# Altium footprint library pedals-resistors.PCBLIB: 12 footprints
Each footprint in its own frame and in the unit in brackets; x right, y up, seen from the top. Pads: shape width x height; smd on the part's side, far side on the other; paste and mask are expansions set on the pad; w line width, h text height; cw(c..) or ccw(c..) is an arc to the next point about the centre after c.
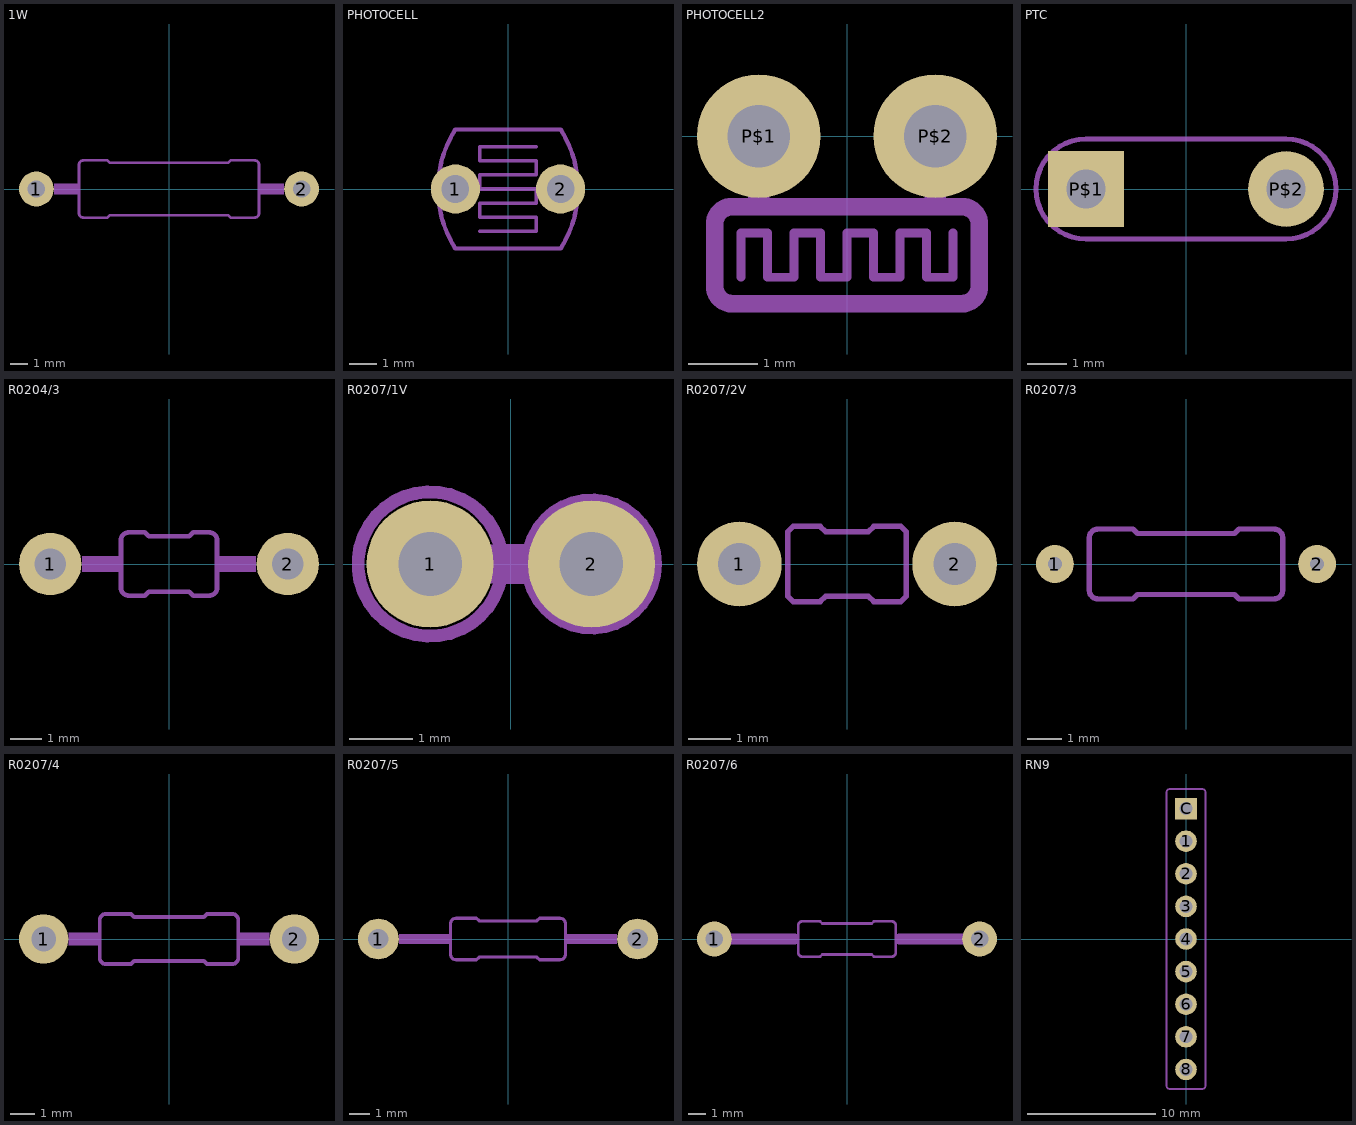
[diagram p0: the footprints below, top view; thin cyan lines are the x and y axes]

## 1W [mm]
pads (2):
  round 2 hole 1: 1(-7.62,0) 2(7.62,0)
Mechanical 2:
  region: 6.604,0.305 5.175,0.305 5.175,-0.305 6.604,-0.305
  rectangle: -6.604,-0.305 -5.175,0.305
  lines w0.152: -5.175,-1.389 ccw(c-4.921,-1.389) -4.921,-1.643 -3.54,-1.643 -3.413,-1.516 3.413,-1.516 3.54,-1.643 4.921,-1.643 ccw(c4.921,-1.389) 5.175,-1.389 5.175,1.389 ccw(c4.921,1.389) 4.921,1.643 3.54,1.643 3.413,1.516 -3.413,1.516 -3.54,1.643 -4.921,1.643 ccw(c-4.921,1.389) -5.175,1.389 -5.175,-1.389

## PHOTOCELL [mil]
pads (2):
  round 70 hole 39.37: 1(-75,0) 2(75,0)
Mechanical 2:
  lines w5: -40,-60 40,-60 40,-40 -40,-40 -40,-20 40,-20 40,0 -40,0 -40,20 40,20 40,40 -40,40 -40,60 40,60
  lines w6: -75,-85 75,-85 ccw(c-57,0) 75,85 -75,85 ccw(c57,0) -75,-85

## PHOTOCELL2 [mil]
pads (2):
  round 70 hole 35.43: P$1(-50,0) P$2(50,0)
Mechanical 2:
  lines w5: -60,-80 -60,-55 -45,-55 -45,-80 -30,-80 -30,-55 -15,-55 -15,-80 0,-80 0,-55 15,-55 15,-80 30,-80 30,-55 45,-55 45,-80 60,-80 60,-55
  lines w10: -75,-85 ccw(c-65,-85) -65,-95 -55,-95 65,-95 ccw(c65,-85) 75,-85 75,-50 ccw(c65,-50) 65,-40 25,-40 10,-40 -10,-40 -25,-40 -55,-40 -65,-40 ccw(c-65,-50) -75,-50 -75,-85
  lines w12: -50,-35 -50,0 ; 50,-35 50,0

## PTC [mil]
pads (2):
  rect 76x76 hole 39.37: P$1(-100,0)
  round 76 hole 39.37: P$2(100,0)
Mechanical 2:
  lines w5: -150,0 ccw(c-100,0) -100,-50 100,-50 ccw(c100,0) 150,0 ccw(c100,0) 100,50 -100,50 ccw(c-100,0) -150,0

## R0204/3 [mm]
pads (2):
  round 2 hole 1: 1(-3.81,0) 2(3.81,0)
Mechanical 2:
  rectangle: -2.794,-0.254 -1.524,0.254
  rectangle: 1.524,-0.254 2.794,0.254
  lines w0.152: -1.54,-0.762 ccw(c-1.286,-0.762) -1.286,-1.016 -0.778,-1.016 -0.651,-0.889 0.651,-0.889 0.778,-1.016 1.286,-1.016 ccw(c1.286,-0.762) 1.54,-0.762 1.54,0.762 ccw(c1.286,0.762) 1.286,1.016 0.778,1.016 0.651,0.889 -0.651,0.889 -0.778,1.016 -1.286,1.016 ccw(c-1.286,0.762) -1.54,0.762 -1.54,-0.762

## R0207/1V [mm]
pads (2):
  round 2 hole 1: 1(-1.27,0) 2(1.27,0)
Mechanical 2:
  circle w0.203: c-1.27,0 r1.136
  circle w0.127: c1.27,0 r1.047
  lines w0.127: -0.203,-0.254 0.254,-0.254 ; -0.203,0.254 0.254,0.254
Mechanical 18:
  lines w0.61: -1.27,0 1.27,0

## R0207/2V [mm]
pads (2):
  round 2 hole 1: 1(-2.54,0) 2(2.54,0)
Mechanical 2:
  lines w0.127: -1.397,-0.762 -1.27,-0.889 -0.635,-0.889 -0.508,-0.762 0.508,-0.762 0.635,-0.889 1.27,-0.889 1.397,-0.762 1.397,0.762 1.27,0.889 0.635,0.889 0.508,0.762 -0.508,0.762 -0.635,0.889 -1.27,0.889 -1.397,0.762 -1.397,-0.762

## R0207/3 [mil]
pads (2):
  round 43.31 hole 15.75: 1(-150,0) 2(150,0)
Mechanical 2:
  lines w6: -110.63,-30 ccw(c-100.63,-30) -100.63,-40 -60.63,-40 -55.63,-35 55.63,-35 60.63,-40 100.63,-40 ccw(c100.63,-30) 110.63,-30 110.63,30 ccw(c100.63,30) 100.63,40 60.63,40 55.63,35 -55.63,35 -60.63,40 -100.63,40 ccw(c-100.63,30) -110.63,30 -110.63,-30

## R0207/4 [mm]
pads (2):
  round 2 hole 1: 1(-5.08,0) 2(5.08,0)
Mechanical 2:
  rectangle: 2.81,-0.254 4.064,0.254
  rectangle: -4.064,-0.254 -2.81,0.254
  lines w0.152: -2.81,-0.762 ccw(c-2.556,-0.762) -2.556,-1.016 -1.54,-1.016 -1.413,-0.889 1.413,-0.889 1.54,-1.016 2.556,-1.016 ccw(c2.556,-0.762) 2.81,-0.762 2.81,0.762 ccw(c2.556,0.762) 2.556,1.016 1.54,1.016 1.413,0.889 -1.413,0.889 -1.54,1.016 -2.556,1.016 ccw(c-2.556,0.762) -2.81,0.762 -2.81,-0.762

## R0207/5 [mm]
pads (2):
  round 2 hole 1: 1(-6.35,0) 2(6.35,0)
Mechanical 2:
  rectangle: 2.81,-0.254 5.334,0.254
  rectangle: -5.334,-0.254 -2.81,0.254
  lines w0.152: -2.81,-0.762 ccw(c-2.556,-0.762) -2.556,-1.016 -1.54,-1.016 -1.413,-0.889 1.413,-0.889 1.54,-1.016 2.556,-1.016 ccw(c2.556,-0.762) 2.81,-0.762 2.81,0.762 ccw(c2.556,0.762) 2.556,1.016 1.54,1.016 1.413,0.889 -1.413,0.889 -1.54,1.016 -2.556,1.016 ccw(c-2.556,0.762) -2.81,0.762 -2.81,-0.762

## R0207/6 [mm]
pads (2):
  round 2 hole 1: 1(-7.62,0) 2(7.62,0)
Mechanical 2:
  rectangle: 2.81,-0.254 3.191,0.254
  rectangle: -3.191,-0.254 -2.81,0.254
  lines w0.152: -2.81,-0.762 ccw(c-2.556,-0.762) -2.556,-1.016 -1.54,-1.016 -1.413,-0.889 1.413,-0.889 1.54,-1.016 2.556,-1.016 ccw(c2.556,-0.762) 2.81,-0.762 2.81,0.762 ccw(c2.556,0.762) 2.556,1.016 1.54,1.016 1.413,0.889 -1.413,0.889 -1.54,1.016 -2.556,1.016 ccw(c-2.556,0.762) -2.81,0.762 -2.81,-0.762
Mechanical 18:
  lines w0.61: -7.62,0 -3.039,0 ; 3.039,0 7.62,0

## RN9 [mil]
pads (9):
  round 66 hole 39.37: 1(0,300) 2(0,200) 3(0,100) 4(0,0) 5(0,-100) 6(0,-200) 7(0,-300) 8(0,-400)
  rect 66x66 hole 39.37: C(0,400)
Mechanical 2:
  lines w5: -60,-450 ccw(c-50,-450) -50,-460 50,-460 ccw(c50,-450) 60,-450 60,450 ccw(c50,450) 50,460 -50,460 ccw(c-50,450) -60,450 -60,-450